# Altium footprint library new-version.PcbLib: 241 footprints (part 9 of 16)
Each footprint in its own frame and in the unit in brackets; x right, y up, seen from the top. Pads: shape width x height; smd on the part's side, far side on the other; paste and mask are expansions set on the pad; w line width, h text height; cw(c..) or ccw(c..) is an arc to the next point about the centre after c.
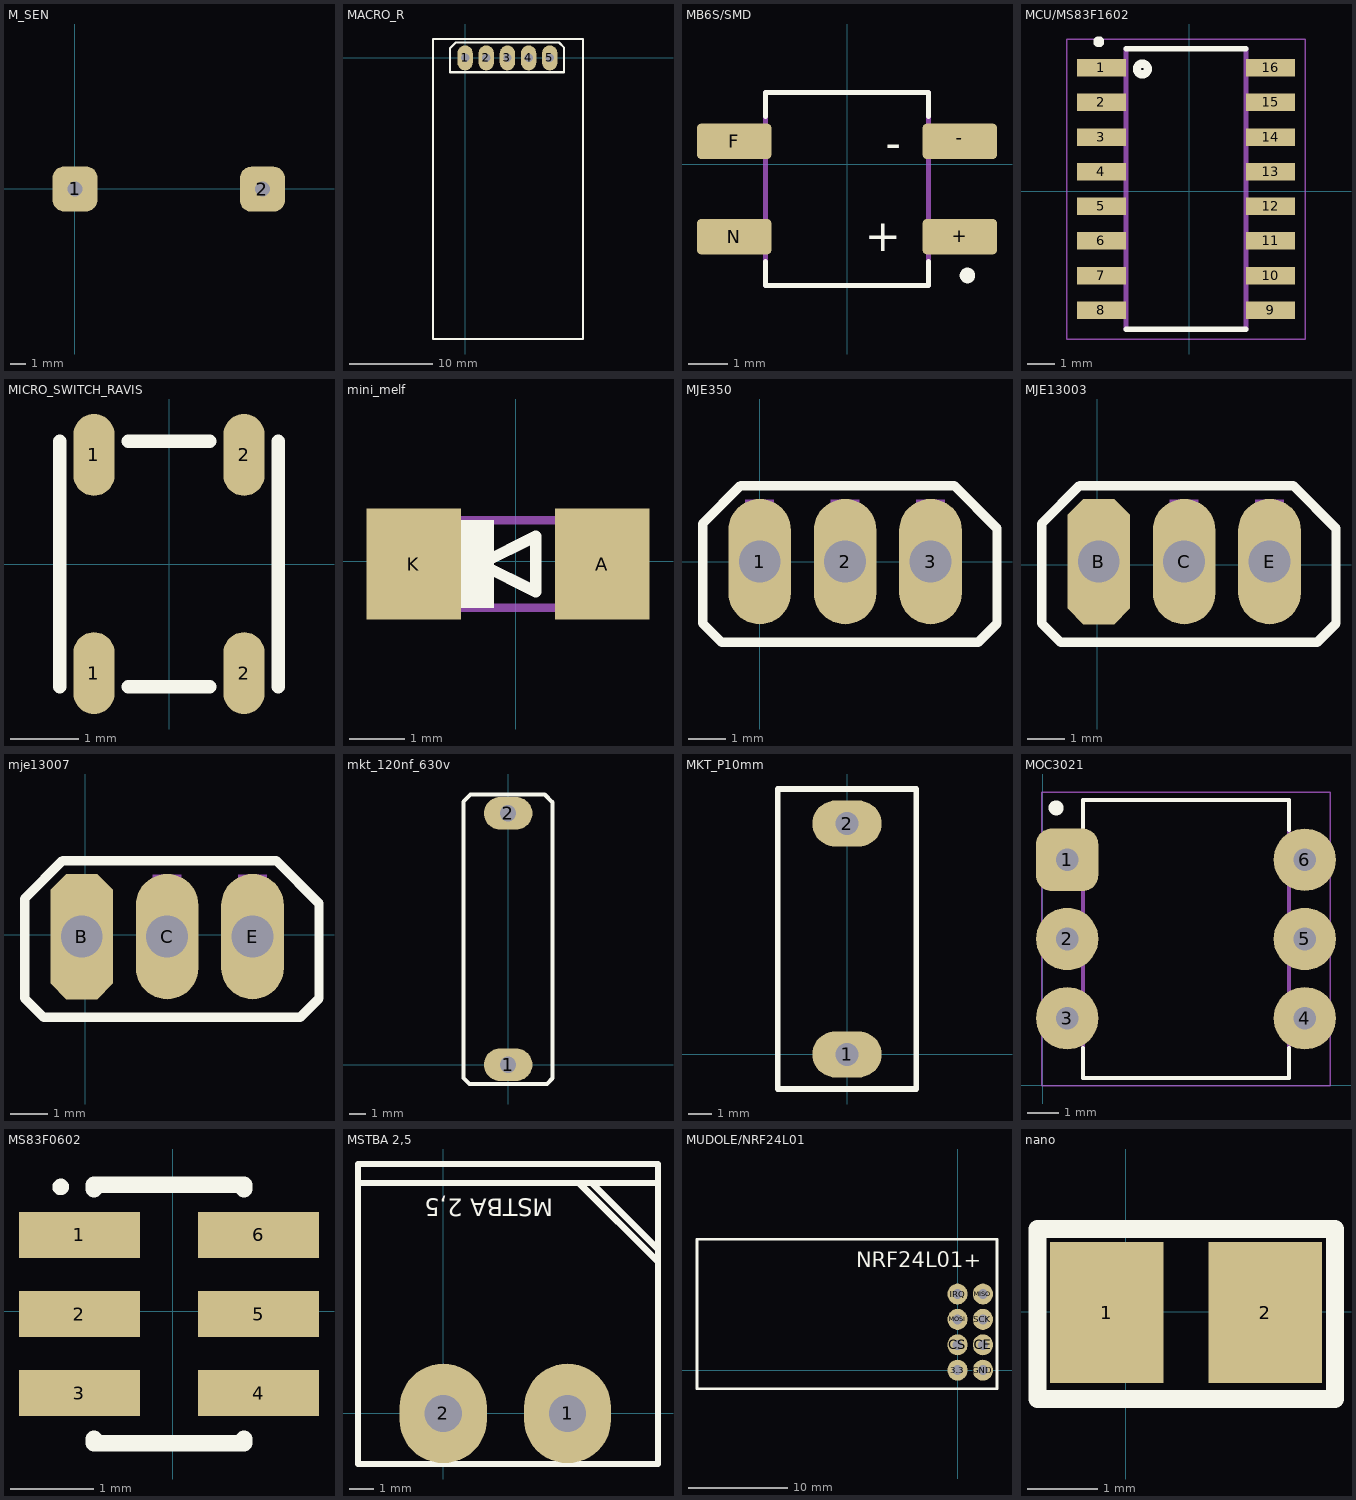
[diagram p8: the footprints below, top view; thin cyan lines are the x and y axes]

## M_SEN [mm]
pads (2):
  rrect50% 3x3 hole 1: 1(0.005,-0.005) 2(12.5,-0.023)
Bottom Overlay:
  circle w0.254: c6.27,-0.01 r10
  lines w0.254: 4.729,8.675 5.536,9.479 6.965,9.477 7.806,8.633

## MACRO_R [mm]
pads (5):
  oval 1.85x3 hole 1: 1(0,0) 2(2.54,0) 3(5.08,0) 4(7.62,0) 5(10.16,0)
Top Overlay:
  lines w0.254: -3.852,-33.739 -3.852,2.261 14.148,2.261 14.148,-33.739 -3.852,-33.739 ; -1.809,-1.726 11.881,-1.726 11.881,1.221 11.263,1.839 -1.127,1.839 -1.809,1.156 -1.809,-1.726

## MB6S/SMD [mm]
pads (4):
  rrect23% 1.91x0.91 smd: +(2.9,-1.86) -(2.9,0.59) F(-2.9,0.59) N(-2.9,-1.86)
Top Overlay:
  circle w0.2: c3.096,-2.857 r0.1
  lines w0.127: -2.1,-2.495 -2.1,-3.115 2.1,-3.115 2.1,-2.495 ; -2.1,1.225 -2.1,1.845 2.1,1.845 2.1,1.225
  text "-" at 1.4,0.765 h0.81
  text "+" at 1.399,-1.525 h0.81
Mechanical 13:
  lines w0.127: -2.1,-3.115 2.1,-3.115 2.1,1.845 -2.1,1.845 -2.1,-3.115
3D body "MB6S.STEP": height 2.9, standoff 0, extent -3.19,-3.002 3.51,1.723

## MCU/MS83F1602 [mm]
pads (16):
  rect 1.8x0.64 smd: 1(-3.219,4.534) 2(-3.219,3.264) 3(-3.219,1.994) 4(-3.219,0.724) 5(-3.219,-0.546) 6(-3.219,-1.816) 7(-3.219,-3.086) 8(-3.219,-4.356) 9(2.991,-4.356) 10(2.991,-3.086) 11(2.991,-1.816) 12(2.991,-0.546) 13(2.991,0.724) 14(2.991,1.994) 15(2.991,3.264) 16(2.991,4.534)
Top Overlay:
  circle w0.3: c-1.714,4.489 r0.2
  circle w0.2: c-3.314,5.489 r0.1
  lines w0.2: -2.314,-5.061 2.086,-5.061 ; -2.314,5.239 2.086,5.239
Mechanical 13:
  lines w0.2: -2.314,-5.061 -2.314,5.239 ; 2.086,-5.061 2.086,5.239
Mechanical 15:
  lines w0.05: -4.489,-5.411 -4.489,5.589 4.261,5.589 4.261,-5.411 -4.489,-5.411
3D body "step_temp.STEP": height 2.14, standoff 0.02, extent -3.669,-5.421 3.441,5.599

## MICRO_SWITCH_RAVIS [mm]
pads (4):
  oval 0.6x1.2 smd mask+0.1: 1(-1.1,-1.6) 1(-1.1,1.6) 2(1.1,-1.6) 2(1.1,1.6)
Top Overlay:
  lines w0.2: -1.6,-1.8 -1.6,1.8 ; -0.6,-1.8 0.6,-1.8 ; -0.6,1.8 0.6,1.8 ; 1.6,-1.8 1.6,1.8
3D body "SKSHAA.STEP": height 0.4, standoff 0.03, extent -1.48,-1.716 1.48,1.717

## mini_melf [mm]
pads (2):
  rect 1.7x2 smd: A(1.557,-0.049) K(-1.843,-0.049)
Top Overlay:
  region: -0.397,-0.836 -1.006,-0.836 -1.006,0.739 -0.397,0.739
  lines w0.203: -0.643,-0.049 0.357,-0.549 0.357,0.451 -0.643,-0.049
Mechanical 13:
  region: 1.711,-0.912 1.153,-0.912 1.153,0.815 1.711,0.815
  region: -1.438,-0.912 -1.997,-0.912 -1.997,0.815 -1.438,0.815
  lines w0.152: -1.464,-0.836 1.178,-0.836 ; -1.464,0.739 1.178,0.739
3D body "MiniMelf.STEP": height 2.5, standoff 0, extent -2.79,-1.31 2.35,1.25

## MJE350 [mil]
pads (3):
  oval 66x132 hole 44: 1(0,0) 2(90,0) 3(180,0)
Top Overlay:
  lines w10: -60,-65 -40,-85 230,-85 250,-65 250,35 205,80 -20,80 -60,40 -60,-65
Mechanical 13:
  region: 195,-5.36 165.13,-5.36 165.13,65 195,65
  region: 105,-5.01 75,-5.01 75,65 105,65
  region: 15,-5.17 -15.09,-5.17 -15.09,65 15,65
3D body "MJE350G.STEP": height 519.68, standoff -545.28, extent -54.21,-39.33 245,65

## MJE13003 [mil]
pads (3):
  oct 66x132 hole 44: B(1.41,3.16)
  oval 66x132 hole 44: C(91.41,3.16) E(181.41,3.16)
Top Overlay:
  lines w10: -58.59,-61.84 -38.59,-81.84 231.41,-81.84 251.41,-61.84 251.41,38.16 206.41,83.16 -18.59,83.16 -58.59,43.16 -58.59,-61.84
Mechanical 13:
  region: 196.41,-2.2 166.54,-2.2 166.54,68.16 196.41,68.16
  region: 106.41,-1.86 76.41,-1.86 76.41,68.16 106.41,68.16
  region: 16.41,-2.01 -13.68,-2.01 -13.68,68.16 16.41,68.16
3D body "MJE350G.STEP": height 519.68, standoff -545.28, extent -52.8,-36.17 246.41,68.16

## mje13007 [mil]
pads (3):
  oct 66x132 hole 44: B(-3.59,-1.84)
  oval 66x132 hole 44: C(86.41,-1.84) E(176.41,-1.84)
Top Overlay:
  lines w10: -63.59,-66.84 -43.59,-86.84 226.41,-86.84 246.41,-66.84 246.41,33.16 201.41,78.16 -23.59,78.16 -63.59,38.16 -63.59,-66.84
Mechanical 13:
  region: 191.41,-7.2 161.54,-7.2 161.54,63.16 191.41,63.16
  region: 101.41,-6.86 71.41,-6.86 71.41,63.16 101.41,63.16
  region: 11.41,-7.01 -18.68,-7.01 -18.68,63.16 11.41,63.16
3D body "MJE350G.STEP": height 519.68, standoff -545.28, extent -57.8,-41.17 241.41,63.16

## mkt_120nf_630v [mm]
pads (2):
  oval 3x2 hole 1: 1(0,0) 2(0,15.5)
Top Overlay:
  lines w0.254: -2.757,16.18 -2.757,16.217 ; -2.757,16.217 -2.311,16.662 2.261,16.662 2.743,16.18 2.743,-0.82 2.743,-0.838 2.388,-1.194 -2.383,-1.194 -2.757,-0.82 -2.757,16.217

## MKT_P10mm [mm]
pads (2):
  oval 3x2 hole 1: 1(0,0) 2(0,10)
Top Overlay:
  lines w0.254: -3,-1.5 3,-1.5 3,11.5 -3,11.5 -3,-1.5

## MOC3021 [mm]
pads (6):
  rrect50% 2x2 hole 0.73: 1(0.786,7.231)
  round 2 hole 0.73: 2(0.786,4.691) 3(0.786,2.151) 4(8.406,2.151) 5(8.406,4.691) 6(8.406,7.231)
Top Overlay:
  circle w0.24: c0.431,8.897 r0.12
  lines w0.127: 1.296,1.191 1.296,0.241 7.896,0.241 7.896,1.191 ; 1.296,8.191 1.296,9.141 7.896,9.141 7.896,8.191
Mechanical 13:
  lines w0.127: 1.296,0.241 7.896,0.241 7.896,9.141 1.296,9.141 1.296,0.241
Mechanical 15:
  lines w0.05: -0.034,-0.009 9.226,-0.009 9.226,9.391 -0.034,9.391 -0.034,-0.009

## MS83F0602 [mm]
pads (6):
  rect 1.45x0.55 smd: 1(-1.118,0.919) 2(-1.118,-0.031) 3(-1.118,-0.981) 4(1.032,-0.981) 5(1.032,-0.031) 6(1.032,0.919)
Top Overlay:
  circle w0.1: c-1.343,1.494 r0.05
  lines w0.2: -0.943,-1.531 -0.943,-1.581 0.857,-1.581 0.857,-1.531 ; -0.943,1.469 -0.943,1.519 0.857,1.519 0.857,1.469

## MSTBA 2,5 [mm]
pads (2):
  oval 3.5x4 hole 1.5: 1(5,0) 2(0,0)
Top Overlay:
  lines w0.254: -3.429,9.271 8.636,9.271 ; 5.207,9.271 5.461,9.271 8.636,6.096 ; 5.715,9.271 5.969,9.271 8.636,6.604 8.636,6.477 ; -3.429,-2.032 -3.429,10.033 8.636,10.033 8.636,-2.032 -3.429,-2.032
  text "MSTBA 2,5" at 4.422,8.634 h0.7
3D body "pxc_1757475_04_01_MSTBA-2-5-2-G_3D.stp": height 8.57, standoff -3.5, extent -3.42,-2.009 8.58,9.991

## MUDOLE/NRF24L01 [mm]
pads (8):
  oval 2x2.1 hole 1: 3.3(-0.003,0.002) CE(2.537,2.542) CS(-0.003,2.542) GND(2.537,0.002) IRQ(-0.003,7.622) MISO(2.537,7.622) MOSI(-0.003,5.082) SCK(2.537,5.082)
Top Overlay:
  lines w0.254: -26.063,-1.863 -26.063,13.109 3.928,13.109 3.944,13.109 3.944,-1.863 -26.063,-1.863
  text "NRF24L01+" at -10.146,10.285 h1.52

## nano [mm]
pads (2):
  rect 1.6x2 smd: 1(-0.266,-0.011) 2(1.975,-0.011)
Top Overlay:
  lines w0.254: -1.243,-1.232 2.963,-1.232 2.963,1.169 -1.222,1.169 -1.243,1.169 -1.243,-1.232